# Altium schematic symbol library Tact_Switch_Sch.SchLib: 1 symbol
Pins are listed as number, name and electrical type; pins without a type are passive.

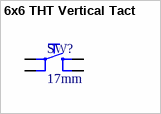
[diagram p0: symbol 6x6 THT Vertical Tact]

## 6x6 THT Vertical Tact
designator SW?, comment 17mm
Black Button Tactile Switch, SPST-NO 50 mA @ 12 Vdc; Height: 17mm; ComponentLink1Description: Link
footprint 6x6x17_THT (6x6x5 tactile switch. Height=5mm)
footprint 6x6x5_THT (6x6x5 tactile switch. Height=5mm)
footprint 6x6x3.3_THT (6x6x5 tactile switch. Height=5mm)
footprint 6x6x1.3_THT (6x6x5 tactile switch. Height=5mm)
pins: 1, 2, 3, 4